# EAGLE library part TEN_3* (library traco-electronic)
DC/DC Konverter 3 Watt, 2 x Input, 1 x Output Source: http://www.tracopower.com/datasheet_g/ten3-d.pdf
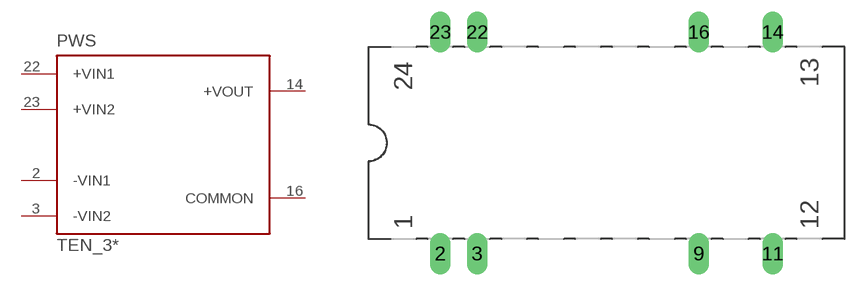
[diagram p0: symbol with the pads of TEN3XXXX; footprint TEN3XXXX]

Designator prefix PWS

## TEN_30510, TEN_30511, TEN_30512, TEN_30513, TEN_31210, TEN_31211, TEN_31212, TEN_31213, TEN_32410, TEN_32411, TEN_32412, TEN_32413, TEN_34810, TEN_34811, TEN_34812, TEN_34813  [TEN3XXXX]
2  -VIN1  in
3  -VIN2  in
14  +VOUT  pas
16  COMMON  pas
22  +VIN1  in
23  +VIN2  in

## Footprint TEN3XXXX (pad centres in mm)
DC/DC Konverter 3 Watt Source: http://www.tracopower.com/datasheet_g/ten3-d.pdf
drill 0.813 pad 1.422 long: 2 -11.43,-7.62; 3 -8.89,-7.62; 9 6.35,-7.62; 11 11.43,-7.62; 14 11.43,7.62; 16 6.35,7.62; 22 -8.89,7.62; 23 -11.43,7.62